# Altium footprint library T8_devkit_PCB.PcbLib: 17 footprints (part 1 of 2)
Each footprint in its own frame and in the unit in brackets; x right, y up, seen from the top. Pads: shape width x height; smd on the part's side, far side on the other; paste and mask are expansions set on the pad; w line width, h text height; cw(c..) or ccw(c..) is an arc to the next point about the centre after c.
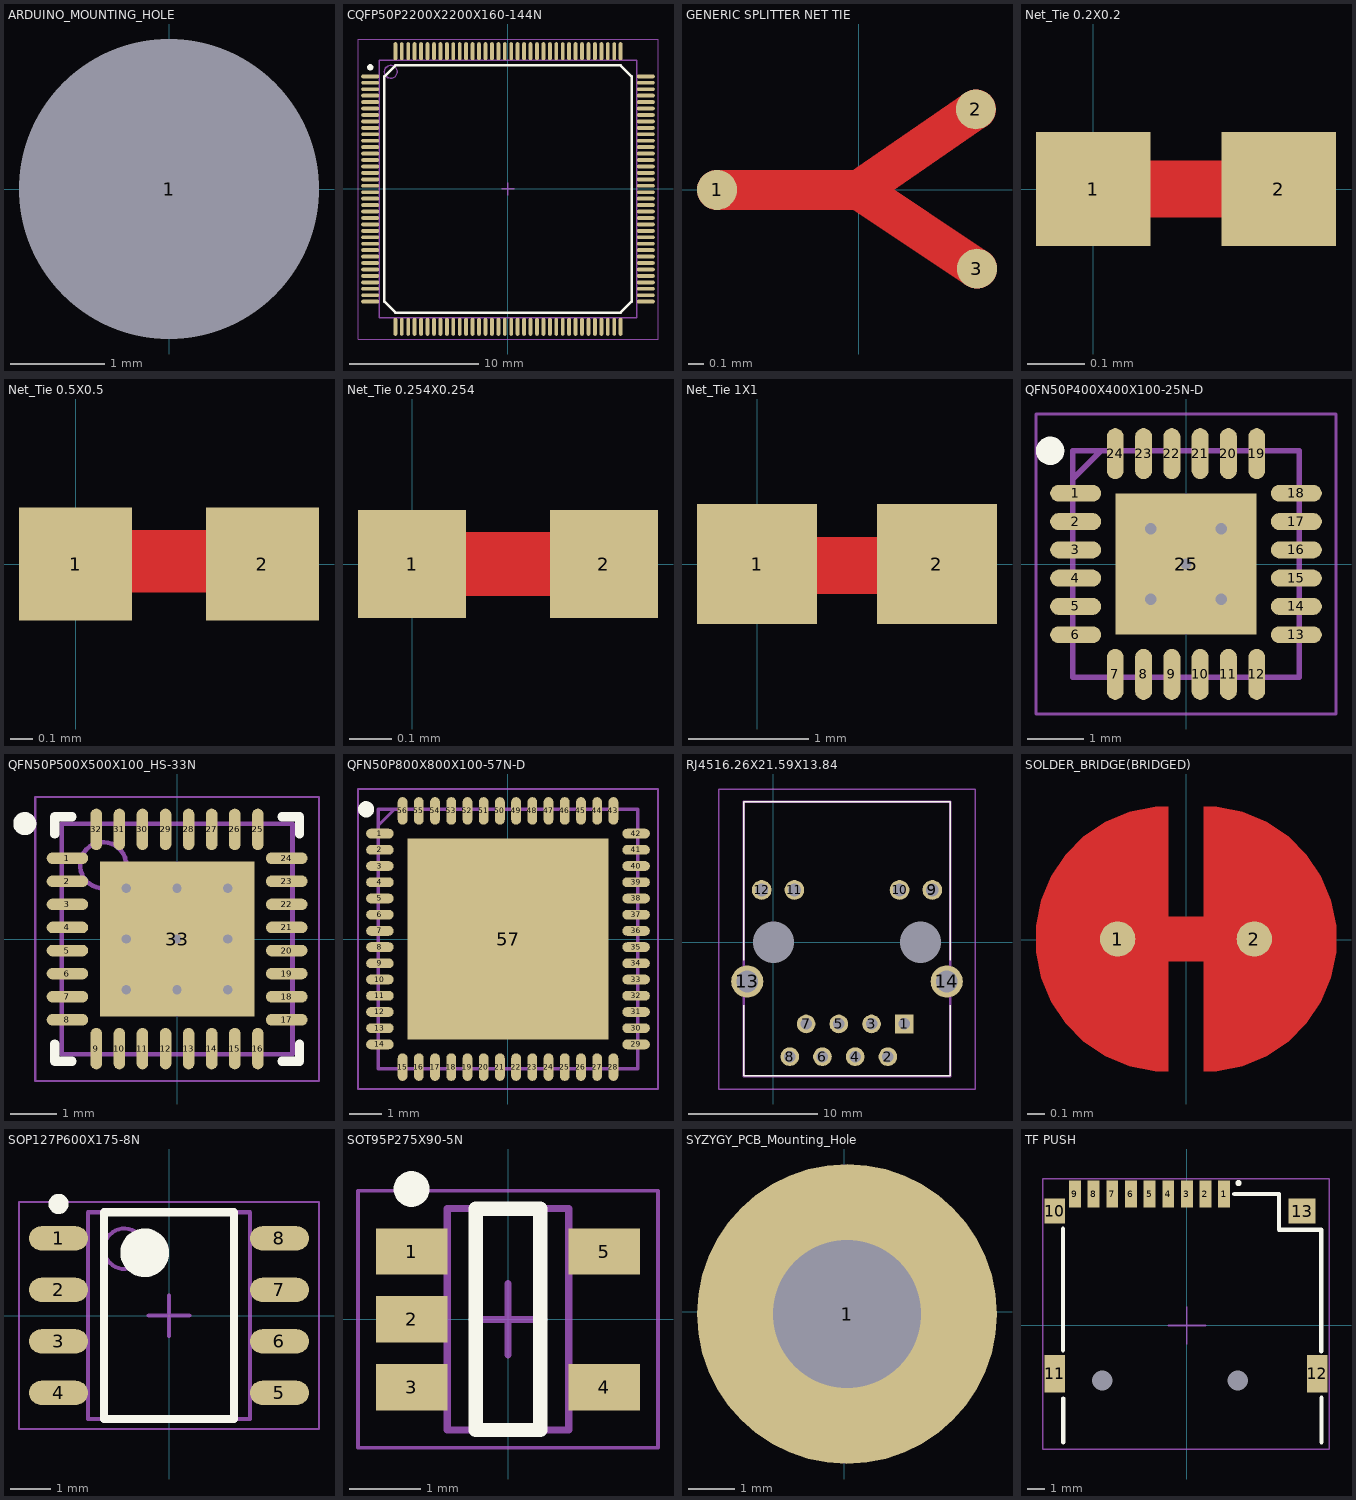
[diagram p0: the footprints below, top view; thin cyan lines are the x and y axes]

## ARDUINO_MOUNTING_HOLE [mil] "ARDUINO_MOUNTING_HOLE"
pads (1):
  round 60 hole 125.98 unplated: 1(0,0)

## CQFP50P2200X2200X160-144N [mm] "CQFP, 144-Leads, Body 22.00x22.00mm, Pitch 0.50mm, IPC Medium Density"
height 1.6
pads (144):
  oval 1.4x0.3 smd mask+0.05: 1(-10.7,8.75) 2(-10.7,8.25) 3(-10.7,7.75) 4(-10.7,7.25) 5(-10.7,6.75) 6(-10.7,6.25) 7(-10.7,5.75) 8(-10.7,5.25) 9(-10.7,4.75) 10(-10.7,4.25) 11(-10.7,3.75) 12(-10.7,3.25) 13(-10.7,2.75) 14(-10.7,2.25) 15(-10.7,1.75) 16(-10.7,1.25) 17(-10.7,0.75) 18(-10.7,0.25) 19(-10.7,-0.25) 20(-10.7,-0.75) 21(-10.7,-1.25) 22(-10.7,-1.75) 23(-10.7,-2.25) 24(-10.7,-2.75) 25(-10.7,-3.25) 26(-10.7,-3.75) 27(-10.7,-4.25) 28(-10.7,-4.75) 29(-10.7,-5.25) 30(-10.7,-5.75) 31(-10.7,-6.25) 32(-10.7,-6.75) 33(-10.7,-7.25) 34(-10.7,-7.75) 35(-10.7,-8.25) 36(-10.7,-8.75) 73(10.7,-8.75) 74(10.7,-8.25) 75(10.7,-7.75) 76(10.7,-7.25) 77(10.7,-6.75) 78(10.7,-6.25) 79(10.7,-5.75) 80(10.7,-5.25) 81(10.7,-4.75) 82(10.7,-4.25) 83(10.7,-3.75) 84(10.7,-3.25) 85(10.7,-2.75) 86(10.7,-2.25) 87(10.7,-1.75) 88(10.7,-1.25) 89(10.7,-0.75) 90(10.7,-0.25) 91(10.7,0.25) 92(10.7,0.75) 93(10.7,1.25) 94(10.7,1.75) 95(10.7,2.25) 96(10.7,2.75) 97(10.7,3.25) 98(10.7,3.75) 99(10.7,4.25) 100(10.7,4.75) 101(10.7,5.25) 102(10.7,5.75) 103(10.7,6.25) 104(10.7,6.75) 105(10.7,7.25) 106(10.7,7.75) 107(10.7,8.25) 108(10.7,8.75)
  oval 0.3x1.4 smd mask+0.05: 37(-8.75,-10.7) 38(-8.25,-10.7) 39(-7.75,-10.7) 40(-7.25,-10.7) 41(-6.75,-10.7) 42(-6.25,-10.7) 43(-5.75,-10.7) 44(-5.25,-10.7) 45(-4.75,-10.7) 46(-4.25,-10.7) 47(-3.75,-10.7) 48(-3.25,-10.7) 49(-2.75,-10.7) 50(-2.25,-10.7) 51(-1.75,-10.7) 52(-1.25,-10.7) 53(-0.75,-10.7) 54(-0.25,-10.7) 55(0.25,-10.7) 56(0.75,-10.7) 57(1.25,-10.7) 58(1.75,-10.7) 59(2.25,-10.7) 60(2.75,-10.7) 61(3.25,-10.7) 62(3.75,-10.7) 63(4.25,-10.7) 64(4.75,-10.7) 65(5.25,-10.7) 66(5.75,-10.7) 67(6.25,-10.7) 68(6.75,-10.7) 69(7.25,-10.7) 70(7.75,-10.7) 71(8.25,-10.7) 72(8.75,-10.7) 109(8.75,10.7) 110(8.25,10.7) 111(7.75,10.7) 112(7.25,10.7) 113(6.75,10.7) 114(6.25,10.7) 115(5.75,10.7) 116(5.25,10.7) 117(4.75,10.7) 118(4.25,10.7) 119(3.75,10.7) 120(3.25,10.7) 121(2.75,10.7) 122(2.25,10.7) 123(1.75,10.7) 124(1.25,10.7) 125(0.75,10.7) 126(0.25,10.7) 127(-0.25,10.7) 128(-0.75,10.7) 129(-1.25,10.7) 130(-1.75,10.7) 131(-2.25,10.7) 132(-2.75,10.7) 133(-3.25,10.7) 134(-3.75,10.7) 135(-4.25,10.7) 136(-4.75,10.7) 137(-5.25,10.7) 138(-5.75,10.7) 139(-6.25,10.7) 140(-6.75,10.7) 141(-7.25,10.7) 142(-7.75,10.7) 143(-8.25,10.7) 144(-8.75,10.7)
Top Overlay:
  circle w0.25: c-10.7,9.45 r0.125
  lines w0.2: -9.6,-8.75 -9.6,8.75 -8.75,9.6 8.75,9.6 9.6,8.75 9.6,-8.75 8.75,-9.6 -8.75,-9.6 -9.6,-8.75
Mechanical 13:
  circle w0.1: c-9.1,9.1 r0.5
  lines w0.1: -10,-10 -10,10 10,10 10,-10 -10,-10
Mechanical 15:
  lines w0.05: -11.65,-11.65 -11.65,11.65 11.65,11.65 11.65,-11.65 -11.65,-11.65
  lines w0.1: -0.5,0 0.5,0 ; 0,-0.5 0,0.5
3D body "CQFP50P2200X2200X160-144N.step": height 1.55, standoff 0, extent -11,-11 11,11

## GENERIC SPLITTER NET TIE [mil] "GENERIC SPLITTER NET TIE"
pads (3):
  round 10 smd paste+0 mask-39.37: 1(-35.43,0) 2(29.22,20.14) 3(29.53,-19.68)
Top Layer:
  lines w10: -35.43,0 0,0 ; 29.22,20.14 0,0 ; 29.53,-19.68 0,0

## Net_Tie 0.2X0.2 [mm] "Net Tie"
pads (2):
  rect 0.2x0.2 smd mask-1: 1(0,0) 2(0.325,0)
Top Layer:
  rectangle: 0.05,-0.05 0.275,0.05

## Net_Tie 0.5X0.5 [mm] "Net Tie"
pads (2):
  rect 0.5x0.5 smd mask-1: 1(0,0) 2(0.825,0)
Top Layer:
  rectangle: 0.15,-0.125 0.75,0.15

## Net_Tie 0.254X0.254 [mil] "Net Tie"
pads (2):
  rect 10x10 smd mask-39.37: 1(0,0) 2(17.72,0)
Top Layer:
  rectangle: 2.95,-2.95 14.76,2.95

## Net_Tie 1X1 [mm] "Net Tie"
pads (2):
  rect 1x1 smd mask-1: 1(0,0) 2(1.5,0)
Top Layer:
  rectangle: 0.225,-0.25 1.275,0.225

## QFN50P400X400X100-25N-D [mm] "QFN, 24-Leads, Body 4.00x4.00mm, Pitch 0.70mm, IPC Medium Density"
pads (25):
  oval 0.9x0.3 smd mask+0.05: 1(-1.95,1.25) 2(-1.95,0.75) 3(-1.95,0.25) 4(-1.95,-0.25) 5(-1.95,-0.75) 6(-1.95,-1.25) 13(1.95,-1.25) 14(1.95,-0.75) 15(1.95,-0.25) 16(1.95,0.25) 17(1.95,0.75) 18(1.95,1.25)
  oval 0.3x0.9 smd mask+0.05: 7(-1.25,-1.95) 8(-0.75,-1.95) 9(-0.25,-1.95) 10(0.25,-1.95) 11(0.75,-1.95) 12(1.25,-1.95) 19(1.25,1.95) 20(0.75,1.95) 21(0.25,1.95) 22(-0.25,1.95) 23(-0.75,1.95) 24(-1.25,1.95)
  rect 2.489x2.489 smd mask+0.05: 25(0,0)
via -0.622,0.622 diameter 0.5 hole 0.2
via -0.622,-0.622 diameter 0.5 hole 0.2
via 0,0 diameter 0.5 hole 0.2
via 0.622,0.622 diameter 0.5 hole 0.2
via 0.622,-0.622 diameter 0.5 hole 0.2
Top Overlay:
  circle w0.25: c-2.4,2 r0.125
Mechanical 13:
  lines w0.1: -2,1.5 -1.5,2 ; -2,-2 2,-2 2,2 -2,2 -2,-2
Mechanical 15:
  lines w0.05: -2.65,-2.65 2.65,-2.65 2.65,2.65 -2.65,2.65 -2.65,-2.65
3D body "USB3318C-CP-TR.stp": height 1, standoff 0, extent -2.05,-2.05 2.05,2.05

## QFN50P500X500X100_HS-33N [mm] "QFN, 32-Leads, Body 5.00x5.00mm, Pitch 0.50mm, Thermal Pad 3.35x3.35mm, IPC Medium Density"
height 1
pads (33):
  oval 0.9x0.25 smd mask+0.05: 1(-2.375,1.75) 2(-2.375,1.25) 3(-2.375,0.75) 4(-2.375,0.25) 5(-2.375,-0.25) 6(-2.375,-0.75) 7(-2.375,-1.25) 8(-2.375,-1.75) 17(2.375,-1.75) 18(2.375,-1.25) 19(2.375,-0.75) 20(2.375,-0.25) 21(2.375,0.25) 22(2.375,0.75) 23(2.375,1.25) 24(2.375,1.75)
  oval 0.25x0.9 smd mask+0.05: 9(-1.75,-2.375) 10(-1.25,-2.375) 11(-0.75,-2.375) 12(-0.25,-2.375) 13(0.25,-2.375) 14(0.75,-2.375) 15(1.25,-2.375) 16(1.75,-2.375) 25(1.75,2.375) 26(1.25,2.375) 27(0.75,2.375) 28(0.25,2.375) 29(-0.25,2.375) 30(-0.75,2.375) 31(-1.25,2.375) 32(-1.75,2.375)
  rect 3.35x3.35 smd mask+0.05: 33(0,0)
via 1.1,-1.1 diameter 0.5 hole 0.2
via 0,-1.1 diameter 0.5 hole 0.2
via -1.1,-1.1 diameter 0.5 hole 0.2
via 1.1,0 diameter 0.5 hole 0.2
via -1.1,0 diameter 0.5 hole 0.2
via 1.1,1.1 diameter 0.5 hole 0.2
via 0,1.1 diameter 0.5 hole 0.2
via -1.1,1.1 diameter 0.5 hole 0.2
via 0,0 diameter 0.5 hole 0.2
Top Overlay:
  circle w0.25: c-3.3,2.5 r0.125
  lines w0.2: -2.65,-2.275 -2.65,-2.65 -2.275,-2.65 ; -2.65,2.275 -2.65,2.65 -2.275,2.65 ; 2.275,-2.65 2.65,-2.65 2.65,-2.275 ; 2.275,2.65 2.65,2.65 2.65,2.275
Mechanical 13:
  circle w0.1: c-1.6,1.6 r0.5
  lines w0.1: -2.5,-2.5 2.5,-2.5 2.5,2.5 -2.5,2.5 -2.5,-2.5
Mechanical 15:
  lines w0.05: -3.075,-3.075 3.075,-3.075 3.075,3.075 -3.075,3.075 -3.075,-3.075
  lines w0.1: -0.5,0 0.5,0 ; 0,-0.5 0,0.5
3D body "QFN50P500X500X100_HS-33N.step": height 1, standoff 0, extent -2.55,-2.563 2.55,2.537

## QFN50P800X800X100-57N-D [mm] "QFN, 56-Leads, Body 8.00x8.00mm, Pitch 0.50mm, IPC Medium Density"
pads (57):
  oval 0.85x0.3 smd mask+0.05: 1(-3.95,3.25) 2(-3.95,2.75) 3(-3.95,2.25) 4(-3.95,1.75) 5(-3.95,1.25) 6(-3.95,0.75) 7(-3.95,0.25) 8(-3.95,-0.25) 9(-3.95,-0.75) 10(-3.95,-1.25) 11(-3.95,-1.75) 12(-3.95,-2.25) 13(-3.95,-2.75) 14(-3.95,-3.25) 29(3.95,-3.25) 30(3.95,-2.75) 31(3.95,-2.25) 32(3.95,-1.75) 33(3.95,-1.25) 34(3.95,-0.75) 35(3.95,-0.25) 36(3.95,0.25) 37(3.95,0.75) 38(3.95,1.25) 39(3.95,1.75) 40(3.95,2.25) 41(3.95,2.75) 42(3.95,3.25)
  oval 0.3x0.85 smd mask+0.05: 15(-3.25,-3.95) 16(-2.75,-3.95) 17(-2.25,-3.95) 18(-1.75,-3.95) 19(-1.25,-3.95) 20(-0.75,-3.95) 21(-0.25,-3.95) 22(0.25,-3.95) 23(0.75,-3.95) 24(1.25,-3.95) 25(1.75,-3.95) 26(2.25,-3.95) 27(2.75,-3.95) 28(3.25,-3.95) 43(3.25,3.95) 44(2.75,3.95) 45(2.25,3.95) 46(1.75,3.95) 47(1.25,3.95) 48(0.75,3.95) 49(0.25,3.95) 50(-0.25,3.95) 51(-0.75,3.95) 52(-1.25,3.95) 53(-1.75,3.95) 54(-2.25,3.95) 55(-2.75,3.95) 56(-3.25,3.95)
  rect 6.2x6.2 smd mask+0.05: 57(0,0)
Top Overlay:
  circle w0.25: c-4.375,4 r0.125
Mechanical 13:
  lines w0.1: -4,3.5 -3.5,4 ; -4,-4 4,-4 4,4 -4,4 -4,-4
Mechanical 15:
  lines w0.05: -4.625,-4.625 4.625,-4.625 4.625,4.625 -4.625,4.625 -4.625,-4.625
3D body "FT4232H-56Q-REEL.stp": height 1, standoff 0, extent -4.05,-4.05 4.05,4.05

## RJ4516.26X21.59X13.84 [mm] "RJ45 ETHERNET CONNECTOR 16.26X21.59X13.84"
pads (16):
  rect 1.446x1.446 hole 0.89 mask+0.05: 1(10.16,-6.35)
  round 1.446 hole 0.89 mask+0.05: 2(8.89,-8.89) 3(7.62,-6.35) 4(6.35,-8.89) 5(5.08,-6.35) 6(3.81,-8.89) 7(2.54,-6.35) 8(1.27,-8.89)
  round 1.53 hole 1 mask+0.05: 9(12.34,4.06) 10(9.8,4.06) 11(1.63,4.06) 12(-0.91,4.06)
  round 2.5 hole 1.7 mask+0.05: 13(-2.03,-3.05) 14(13.46,-3.05)
  round 1.625 hole 3.2 unplated mask+0.05: ""(0,0) ""(11.43,0)
Top Overlay:
  lines w0.1: -2.305,-4.89 -2.305,-10.39 13.735,-10.39 13.735,-4.89 ; -2.305,-1.39 -2.305,10.9 13.735,10.9 13.735,-1.39
Mechanical 13:
  lines w0.2: -2.305,-10.4 13.735,-10.4 13.735,10.9 -2.305,10.9 -2.305,-10.4
Mechanical 15:
  lines w0.1: -4.252,-11.4 15.683,-11.4 15.683,11.9 -4.252,11.9 -4.252,-11.4
3D body "13F-60FGYDPNW2NL.step": height 13.5, standoff -2.72, extent -2.355,-10.407 13.755,10.893

## SOLDER_BRIDGE(BRIDGED) [mm] "SOLDER_BRIDGE(BRIDGED)"
pads (2):
  round 0.2 smd mask+0: 1(-0.387,0.005) 2(0.387,0.005)
Top Layer:
  region: -0.1,0.755 -0.174,0.755 -0.319,0.726 -0.455,0.67 -0.578,0.588 -0.683,0.483 -0.765,0.36 -0.821,0.224 -0.85,0.079 -0.85,0.005 -0.85,-0.069 -0.821,-0.214 -0.765,-0.35 -0.683,-0.473 -0.578,-0.578 -0.455,-0.66 -0.319,-0.716 -0.174,-0.745 -0.1,-0.745
  region: 0.1,0.755 0.174,0.755 0.319,0.726 0.455,0.67 0.578,0.588 0.683,0.483 0.765,0.36 0.821,0.224 0.85,0.079 0.85,0.005 0.85,-0.069 0.821,-0.214 0.765,-0.35 0.683,-0.473 0.578,-0.578 0.455,-0.66 0.319,-0.716 0.174,-0.745 0.1,-0.745
  lines w0.254: -0.387,0.005 0.387,0.005
Top Solder:
  region: 0.1,0.805 0.1,-0.795 -0.1,-0.795 -0.1,0.805

## SOP127P600X175-8N [mm] "SOP, 8-Leads, Body 4.90x3.90mm, Pitch 1.27mm, IPC Medium Density"
height 1.75
pads (8):
  oval 1.45x0.6 smd mask+0.05: 1(-2.725,1.905) 2(-2.725,0.635) 3(-2.725,-0.635) 4(-2.725,-1.905) 5(2.725,-1.905) 6(2.725,-0.635) 7(2.725,0.635) 8(2.725,1.905)
Top Overlay:
  circle w0.25: c-2.725,2.755 r0.125
  circle w0.6: c-0.6,1.55 r0.3
  lines w0.2: -1.6,-2.55 -1.6,2.55 1.6,2.55 1.6,-2.55 -1.6,-2.55
Mechanical 13:
  circle w0.1: c-1.1,1.65 r0.5
  lines w0.1: -2,-2.55 -2,2.55 2,2.55 2,-2.55 -2,-2.55
Mechanical 15:
  lines w0.05: -3.7,-2.8 -3.7,2.8 3.7,2.8 3.7,-2.8 -3.7,-2.8
  lines w0.1: -0.5,0 0.5,0 ; 0,-0.5 0,0.5
3D body "SOP127P600X175-8N.step": height 1.75, standoff 0, extent -2.962,-2.56 3.038,2.54

## SOT95P275X90-5N [mm] "SOT23, 5-Leads, Body 2.95x2.75mm, Pitch 0.95mm, IPC Medium Density"
height 0.9
pads (5):
  rect 1x0.65 smd mask+0.05: 1(-1.35,0.95) 2(-1.35,0) 3(-1.35,-0.95) 4(1.35,-0.95) 5(1.35,0.95)
Top Overlay:
  circle w0.25: c-1.35,1.825 r0.125
  lines w0.2: -0.45,-1.55 -0.45,1.55 0.45,1.55 0.45,-1.55 -0.45,-1.55
Mechanical 13:
  lines w0.1: -0.85,-1.55 0.85,-1.55 0.85,1.55 -0.85,1.55 -0.85,-1.55
Mechanical 15:
  lines w0.05: -2.1,-1.8 2.1,-1.8 2.1,1.8 -2.1,1.8 -2.1,-1.8
  lines w0.1: -0.5,0 0.5,0 ; 0,-0.5 0,0.5
3D body "SOT95P275X90-5N.step": height 0.9, standoff 0, extent -1.487,-1.563 1.513,1.537

## SYZYGY_PCB_Mounting_Hole [mm] "SYZYGY_PCB_Mounting_Hole"
pads (1):
  round 6.5 hole 3.2 mask+0.05: 1(0.064,-0.051)

## TF PUSH [mm] "Body 14.75mmx14.50mm, Pitch 1.8mm"
pads (15):
  rect 0.7x1.6 smd mask+0.05: 1(2.2,7.75) 2(1.1,7.75) 3(0,7.75) 4(-1.1,7.75) 5(-2.2,7.75) 6(-3.3,7.75) 7(-4.4,7.75) 8(-5.5,7.75) 9(-6.6,7.75)
  rect 1.2x1.5 smd mask+0.05: 10(-7.8,6.75)
  rect 1.2x2.2 smd mask+0.05: 11(-7.8,-2.85) 12(7.7,-2.85)
  rect 1.6x1.5 smd mask+0.05: 13(6.8,6.75)
  round 1 hole 1.2 unplated mask+0.05: ""(-5,-3.25) ""(3,-3.25)
Top Overlay:
  circle w0.254: c3.05,8.4 r0.052
  lines w0.254: -7.31,-1.46 -7.31,5.7 ; -7.3,-6.9 -7.29,-4.31 ; 2.8,7.75 4.652,7.75 5.439,7.75 5.439,5.649 5.45,5.65 ; 5.44,5.65 7.93,5.65 7.93,-1.519 ; 7.95,-6.9 7.95,-4.26
Mechanical 15:
  circle w0.4: c3,-3.25 r0.2
  circle w0.4: c-5,-3.25 r0.2
  lines w0.1: -1.1,0 0,0 ; 0,-1.1 0,0 ; 0,1.1 0,0 ; 1.1,0 0,0 ; -8.5,-7.3 8.25,-7.3 8.4,-7.3 8.4,8.65 -8.5,8.65 -8.5,-7.3
3D body "XKXFS-N02-XXT.step": height 1.86, standoff -0.54, extent -8.25,-7.25 8.15,7.75